# Altium footprint library PCB.PCBLIB: 320 footprints (part 18 of 20)
Each footprint in its own frame and in the unit in brackets; x right, y up, seen from the top. Pads: shape width x height; smd on the part's side, far side on the other; paste and mask are expansions set on the pad; w line width, h text height; cw(c..) or ccw(c..) is an arc to the next point about the centre after c.
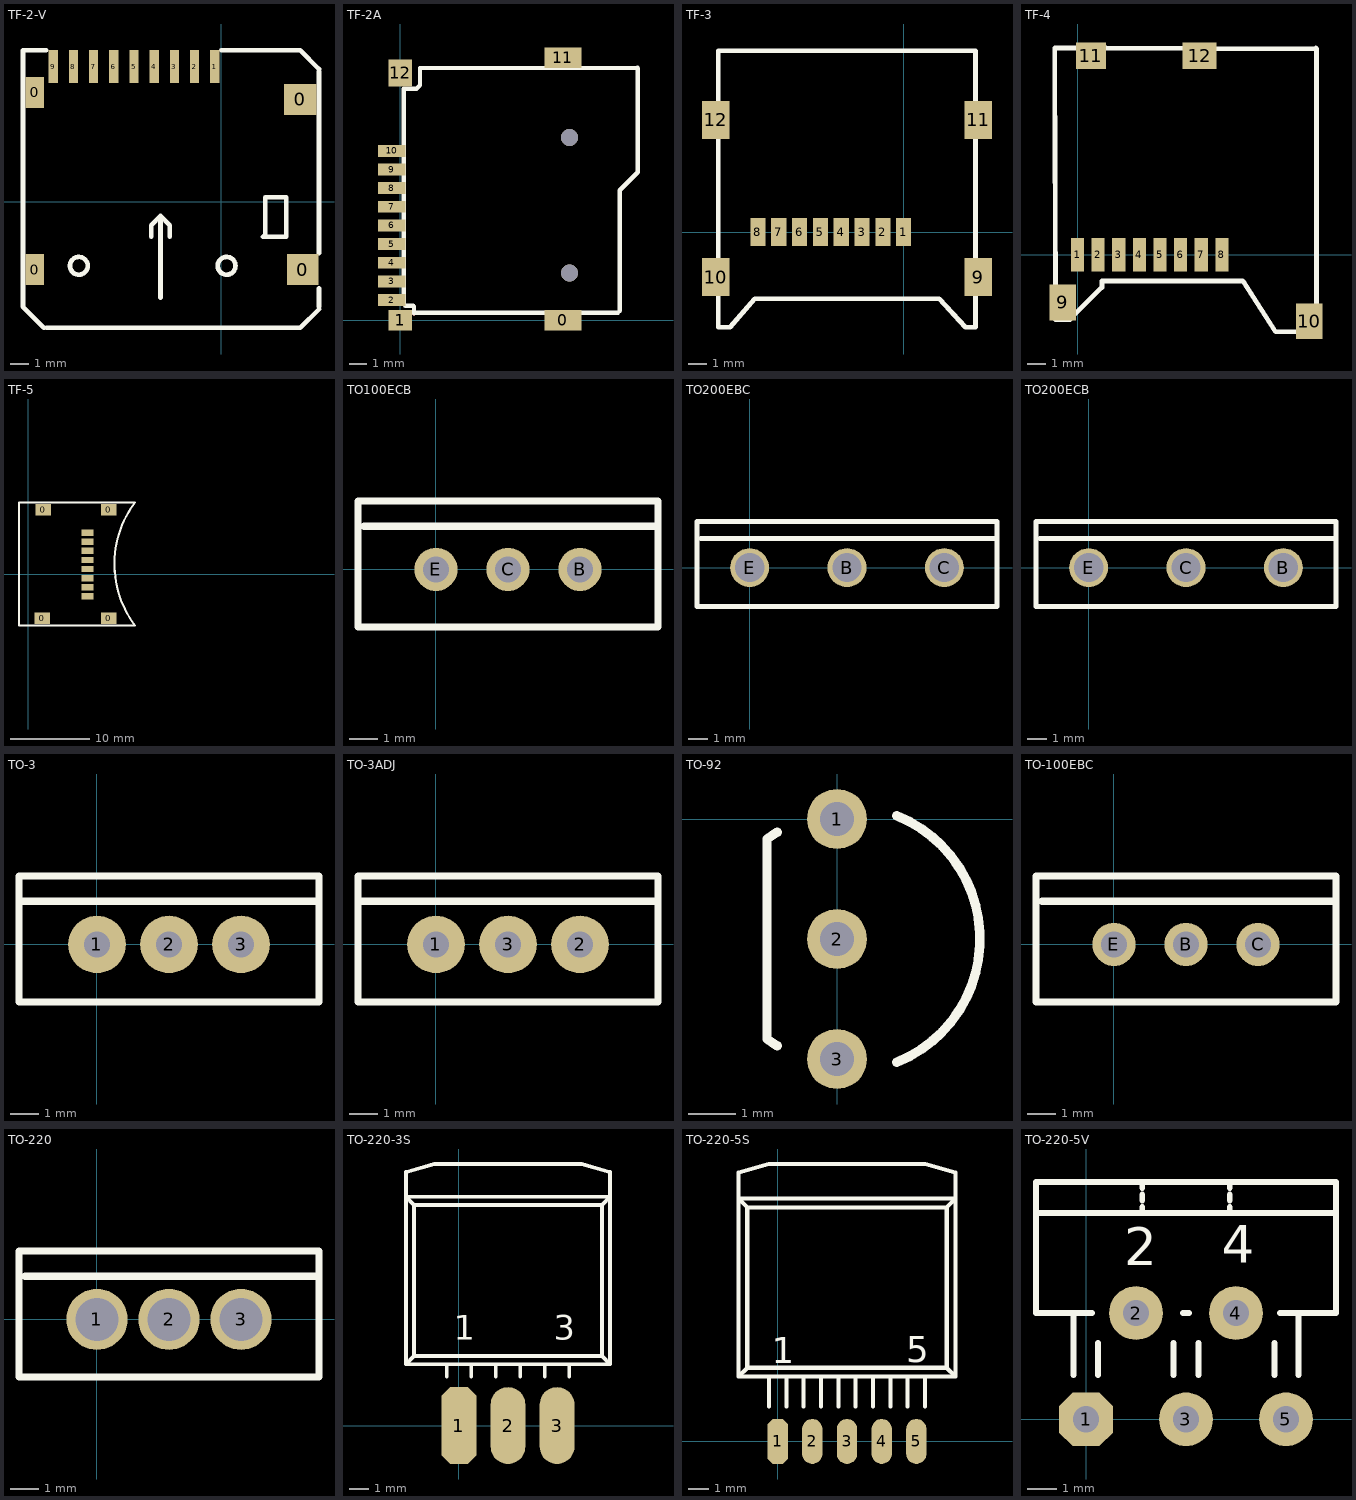
[diagram p17: the footprints below, top view; thin cyan lines are the x and y axes]

## TF-2-V [mm]
pads (13):
  rect 1x1.7 smd: 0(-10.16,-3.683) 0(-10.16,5.969)
  rect 1.778x1.7 smd: 0(4.318,5.588)
  rect 1.7x1.7 smd: 0(4.445,-3.683)
  rect 0.5x1.8 smd: 1(-0.344,7.366) 2(-1.444,7.366) 3(-2.544,7.366) 4(-3.644,7.366) 5(-4.744,7.366) 6(-5.844,7.366) 7(-6.944,7.366) 8(-8.044,7.366) 9(-9.144,7.366)
TopOverlay:
  circle w0.254: c-7.75,-3.48 r0.485
  circle w0.254: c0.302,-3.48 r0.485
  lines w0.254: -9.652,-6.858 -10.795,-5.715 -10.795,8.255 -9.525,8.255 ; -9.525,-6.858 4.064,-6.858 4.318,-6.858 5.334,-5.842 ; -3.81,-1.905 -3.81,-1.27 -3.302,-0.762 ; -3.302,-5.207 -3.302,-0.762 ; -2.794,-1.905 -2.794,-1.27 -3.302,-0.762 ; 0,8.255 4.318,8.255 5.334,7.239 ; 5.334,-5.715 5.334,-4.699 ; 5.334,-2.794 5.334,7.112 ; 2.286,-1.905 2.413,-1.778 2.413,0.254 3.556,0.254 3.556,-1.905 2.286,-1.905

## TF-2A [mm]
pads (13):
  rect 2.2x1.2 smd: 0(9.6,0) 11(9.6,15.5)
  rect 1.4x1.2 smd: 1(0,0)
  rect 1.6x0.7 smd: 2(-0.5,1.2) 3(-0.5,2.3) 4(-0.5,3.4) 5(-0.5,4.5) 6(-0.5,5.6) 7(-0.5,6.7) 8(-0.5,7.8) 9(-0.5,8.9) 10(-0.5,10)
  rect 1.4x1.6 smd: 12(0,14.6)
via 10,10.8 diameter 1 hole 1
via 10,2.8 diameter 1 hole 1
TopLayer:
  lines w0.254: 0.812,0.406 0.862,0.457
TopOverlay:
  lines w0.254: 0.812,0.406 0.812,0.813 0.761,0.864 0.304,0.864 0.202,0.965 0.202,13.665 0.964,13.665 1.167,13.868 1.167,14.884 14,14.9 ; 0.862,0.457 12.851,0.457 12.953,0.559 12.953,7.671 14.02,8.738 14.02,14.88

## TF-3 [mm]
pads (12):
  rect 0.8x1.5 smd: 1(0,0) 2(-1.1,0) 3(-2.2,0) 4(-3.3,0) 5(-4.4,0) 6(-5.5,0) 7(-6.6,0) 8(-7.7,0)
  rect 1.45x2 smd: 9(3.932,-2.378) 10(-9.918,-2.378) 11(3.932,5.922) 12(-9.918,5.922)
TopOverlay:
  lines w0.254: -9.798,-5.028 -9.798,9.572 3.802,9.572 3.802,-5.028 3.271,-5.028 1.872,-3.528 -7.868,-3.528 -9.175,-5.028 -9.798,-5.028

## TF-4 [mm]
pads (12):
  rect 0.7x1.8 smd: 1(0,0) 2(1.1,0) 3(2.2,0) 4(3.3,0) 5(4.4,0) 6(5.5,0) 7(6.6,0) 8(7.7,0)
  rect 1.4x1.9 smd: 9(-0.79,-2.55) 10(12.36,-3.55)
  rect 1.6x1.4 smd: 11(0.71,10.6)
  rect 1.8x1.4 smd: 12(6.51,10.6)
TopOverlay:
  lines w0.254: 1.524,11.024 -1.219,11.024 ; 12.649,10.973 -1.219,11.024 ; 12.7,11.024 12.751,10.973 12.751,-4.115 ; 12.802,-4.064 12.751,-4.115 ; -1.219,11.024 -1.168,-3.454 -0.406,-3.454 1.3,-1.748 1.3,-1.4 8.72,-1.4 8.817,-1.4 10.566,-4.115 12.751,-4.115

## TF-5 [mm]
pads (12):
  rect 2x1.45 smd: 0(1.778,-5.588) 0(1.905,8.128) 0(10.16,-5.588) 0(10.16,8.128)
  rect 1.5x0.8 smd: 1(7.493,5.207) 2(7.493,4.064) 3(7.493,2.921) 4(7.493,1.778) 5(7.493,0.635) 6(7.493,-0.508) 7(7.493,-1.651) 8(7.493,-2.794)
TopOverlay:
  lines w0.254: -1.143,-6.477 13.462,-6.477 cw(c23.749,1.27) 13.313,8.814 ; -1.143,-6.35 -1.143,9.017 13.462,9.017

## TO100ECB [mil]
pads (3):
  round 60 hole 36: B(200,0) C(100,0) E(0,0)
TopOverlay:
  lines w10: -100,60 308.33,60 ; -108.33,-80 -108.33,95 308.33,95 308.33,-80 -108.33,-80

## TO200EBC [mil]
pads (3):
  round 80 hole 60: B(200,0) C(400,0) E(0,0)
TopOverlay:
  lines w10: -100,60 508.33,60 ; -108.33,-80 508.33,-80 508.33,95 -108.33,95 -108.33,-80

## TO200ECB [mil]
pads (3):
  round 80 hole 60: B(400,0) C(200,0) E(0,0)
TopOverlay:
  lines w10: -100,60 508.33,60 ; -108.33,-80 -108.33,95 508.33,95 508.33,-80 -108.33,-80

## TO-3 [mil]
pads (3):
  round 80 hole 36: 1(0,0) 2(100,0) 3(200,0)
TopOverlay:
  lines w10: -108.33,60 308.33,60 ; -108.33,-80 -108.33,95 308.33,95 308.33,-80 -108.33,-80

## TO-3ADJ [mil]
pads (3):
  round 80 hole 36: 1(0,0) 2(200,0) 3(100,0)
TopOverlay:
  lines w10: -108.33,60 308.33,60 ; -108.33,-80 -108.33,95 308.33,95 308.33,-80 -108.33,-80

## TO-92 [mil]
pads (3):
  round 50 hole 28: 1(0,0) 2(0,-100) 3(0,-200)
TopOverlay:
  lines w7.87: -49.71,-189.08 -58.33,-183.33 -58.33,-16.67 -49.71,-10.92 ; 49.85,-202.76 ccw(c8.33,-100) 49.85,2.76

## TO-100EBC [mil]
pads (3):
  round 60 hole 36: B(100,0) C(200,0) E(0,0)
TopOverlay:
  lines w10: -100,60 308.33,60 ; -108.33,-80 308.33,-80 308.33,95 -108.33,95 -108.33,-80

## TO-220 [mil]
pads (3):
  round 85 hole 60: 1(0,0) 2(100,0) 3(200,0)
TopOverlay:
  lines w10: -100,60 308.33,60 ; -108.33,-80 -108.33,95 308.33,95 308.33,-80 -108.33,-80

## TO-220-3S [mil]
pads (3):
  oct 70.83x156.67 smd: 1(0,0)
  oval 70.83x156.67 smd: 2(100,0) 3(200,0)
TopOverlay:
  lines w7.87: -25,100 -25,125 ; 25,100 25,125 ; 75,100 75,125 ; 125,100 125,125 ; 175,100 175,125 ; 225,100 225,125 ; -108.33,125 -91.67,141.67 ; -108.33,125 -108.33,466.67 ; -108.33,125 308.33,125 ; -108.33,466.67 -91.67,450 ; -108.33,466.67 -108.33,516.67 -50,533.33 250,533.33 308.33,516.67 308.33,466.67 ; -108.33,466.67 308.33,466.67 ; -91.67,141.67 291.67,141.67 ; -91.67,141.67 -91.67,450 ; -91.67,450 291.67,450 ; 291.67,141.67 308.33,125 ; 291.67,141.67 291.67,450 ; 291.67,450 308.33,466.67 ; 308.33,125 308.33,466.67
  text "1" at -10.26,175.05 h50
  text "3" at 193.03,175.05 h50

## TO-220-5S [mil]
pads (5):
  oct 39.17x86.67 smd: 1(0,0)
  oval 39.17x86.67 smd: 2(66.67,0) 3(133.33,0) 4(200,0) 5(266.67,0)
TopOverlay:
  lines w7.87: -16.67,66.93 -16.67,125 ; 16.67,66.93 16.67,125 ; 50,66.93 50,125 ; 83.33,66.93 83.33,125 ; 116.67,66.93 116.67,125 ; 150,66.93 150,125 ; 183.33,66.93 183.33,125 ; 216.67,66.93 216.67,125 ; 250,66.93 250,125 ; 283.33,66.93 283.33,125 ; -75,125 -58.33,141.67 ; -75,125 -75,466.67 ; -75,125 341.67,125 ; -75,466.67 -58.33,450 ; -75,466.67 -75,516.67 -16.67,533.33 283.33,533.33 341.67,516.67 341.67,466.67 ; -75,466.67 341.67,466.67 ; -58.33,141.67 325,141.67 ; -58.33,141.67 -58.33,450 ; -58.33,450 325,450 ; 325,141.67 341.67,125 ; 325,141.67 325,450 ; 325,450 341.67,466.67 ; 341.67,125 341.67,466.67
  text "5" at 247.1,151.89 h50
  text "1" at -11.1,150.8 h50

## TO-220-5V [mil]
pads (5):
  oct 71.67x71.67 hole 35: 1(0,0)
  round 71.67 hole 35: 2(66.67,141.67) 3(133.33,0) 4(200,141.67) 5(266.67,0)
TopOverlay:
  lines w7.87: -66.67,275 333.33,275 ; -16.67,59.05 -16.67,141.67 ; 7.87,141.67 -66.67,141.67 -66.67,316.67 333.33,316.67 333.33,141.67 258.79,141.67 ; 15.75,59.05 15.75,101.5 ; 75,275 75,283.33 ; 75,291.67 75,300 ; 75,308.33 75,316.67 ; 116.67,59.05 116.67,101.5 ; 129.4,141.67 137.27,141.67 ; 150,59.05 150,101.5 ; 191.67,275 191.67,283.33 ; 191.67,291.67 191.67,300 ; 191.67,308.33 191.67,316.67 ; 251.21,59.05 251.21,101.5 ; 283.33,59.05 283.33,141.67
  text "4" at 180.98,208.71 h50
  text "2" at 51.22,205.36 h50